# EAGLE library part SI9988 (library GRITSBot)
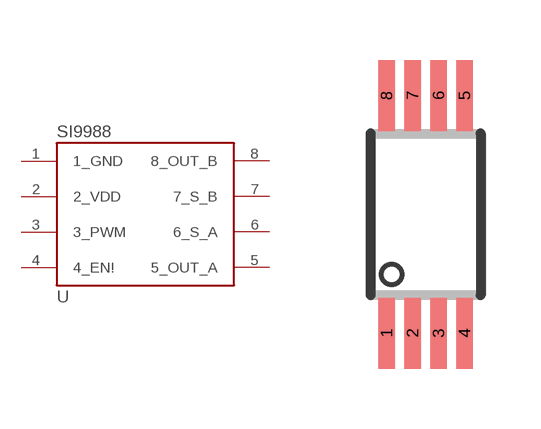
[diagram p7: symbol with the pads of TSSOP-8; footprint TSSOP-8]

Designator prefix -

## SI9988  [TSSOP-8]
1  1_GND
2  2_VDD
3  3_PWM
4  4_EN!
5  5_OUT_A
6  6_S_A
7  7_S_B
8  8_OUT_B

## Footprint TSSOP-8 (pad centres in mm)
8-Pin TSSOP Source: www.xicor.com .. x1205.pdf
smd 0.42 x 1.78: 1 -0.975,-2.975; 2 -0.325,-2.975; 3 0.325,-2.975; 4 0.975,-2.975; 5 0.975,2.975; 6 0.325,2.975; 7 -0.325,2.975; 8 -0.975,2.975